# EAGLE library part SIM-SD (library X893)
Dual SIM and microSD holder http://www.molex.com/pdm_docs/sd/493621411_sd.pdf http://jae-connector.com/en/pdf/MB-0167-1E_ST5.pdf
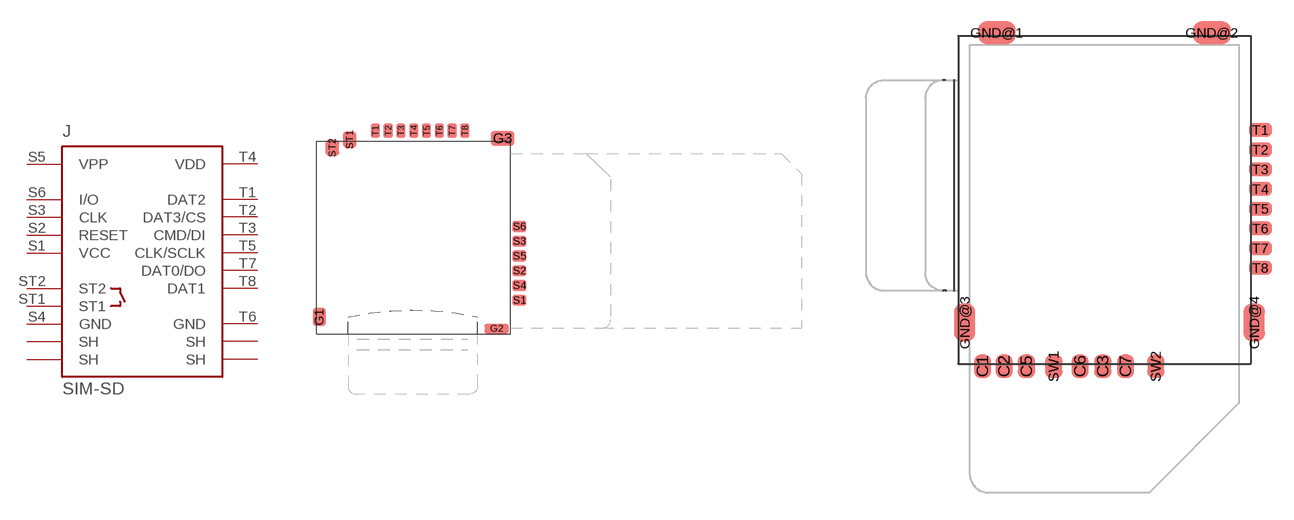
[diagram p19: symbol with the pads of MOLEX-0493621411; footprints MOLEX-0493621411, ST5S014V4A]

Designator prefix J

## SIM-SD-MOLEX-0493621411  [MOLEX-0493621411]
G1  SH  sup
G2  SH  sup
G3  SH  sup
G4  SH  sup
S1  VCC  pas
S2  RESET  in
S3  CLK  in
S4  GND  sup
S5  VPP  pas
S6  I/O
ST1  ST1  pas
ST2  ST2  pas
T1  DAT2
T2  DAT3/CS
T3  CMD/DI
T4  VDD  pas
T5  CLK/SCLK  in
T6  GND  sup
T7  DAT0/DO
T8  DAT1

## SIM-SD-JAE-ST5S014V4A  [ST5S014V4A]
C1  VCC  pas
C2  RESET  in
C3  CLK  in
C5  GND  sup
C6  VPP  pas
C7  I/O
GND@1  SH  sup
GND@2  SH  sup
GND@3  SH  sup
GND@4  SH  sup
SW1  ST1  pas
SW2  ST2  pas
T1  DAT2
T2  DAT3/CS
T3  CMD/DI
T4  VDD  pas
T5  CLK/SCLK  in
T6  GND  sup
T7  DAT0/DO
T8  DAT1

## Footprint MOLEX-0493621411 (pad centres in mm)
Dual SIM micro-SD holder http://www.molex.com/pdm_docs/sd/493621411_sd.pdf
smd 1.1 x 1.6: G1 -7.75,-6.565
smd 2.1 x 0.86: G2 7.5,-7.57
smd 2 x 1.25: G3 8,8.825
smd 0.5 x 0.25: G4 8.25,8.75
smd 1.2 x 0.98: S1 9.45,-5.12; S2 9.45,-2.58; S3 9.45,-0.04; S4 9.45,-3.85; S5 9.45,-1.31; S6 9.45,1.23
smd 1.2 x 1.4: ST1 -5.16,8.7; ST2 -6.66,8
smd 0.8 x 1.25: T1 -2.946,9.475; T2 -1.846,9.475; T3 -0.746,9.475; T4 0.354,9.475; T5 1.454,9.475; T6 2.554,9.475; T7 3.654,9.475; T8 4.754,9.475

## Footprint ST5S014V4A (pad centres in mm)
smd 0.95 x 1.3: C1 -6.8,-2.45; C2 -5.6,-2.45; C3 -0.09,-2.45; C5 -4.35,-2.45; C6 -1.36,-2.45; C7 1.18,-2.45; SW1 -2.83,-2.45; SW2 2.87,-2.45
smd 2.1 x 1.25: GND@1 -6,16.175; GND@2 6,16.175
smd 1.2 x 2.1: GND@3 -7.8,0; GND@4 8.35,0
smd 1.3 x 0.8: T1 8.7,10.75; T2 8.7,9.65; T3 8.7,8.55; T4 8.7,7.45; T5 8.7,6.35; T6 8.7,5.25; T7 8.7,4.15; T8 8.7,3.05